# EAGLE library part IRF7530 (library OSSIdonghee)
IRF7530 Dual N-channel MOSFET Vdss = 20V Rds(on) = 0.030 Ohm Id = 4.3A at(70 celsius degree) Vgs = 1.2V max
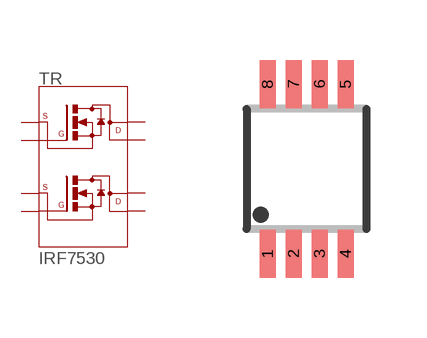
[diagram p31: symbol with the pads of MICRO-8; footprint MICRO-8]

Designator prefix TR

## IRF7530  [MICRO-8]
1  1  pas
2  2  pas
3  3  pas
4  4  pas
5  5  pas
6  6  pas
7  7  pas
8  8  pas

## Footprint MICRO-8 (pad centres in mm)
smd 0.4 x 1.2: 1 -0.975,-2.12; 2 -0.325,-2.12; 3 0.325,-2.12; 4 0.975,-2.12; 5 0.975,2.12; 6 0.325,2.12; 7 -0.325,2.12; 8 -0.975,2.12